# Altium schematic symbol library Schlib2.SchLib: 22 symbols
Pins are listed as number, name and electrical type; pins without a type are passive.

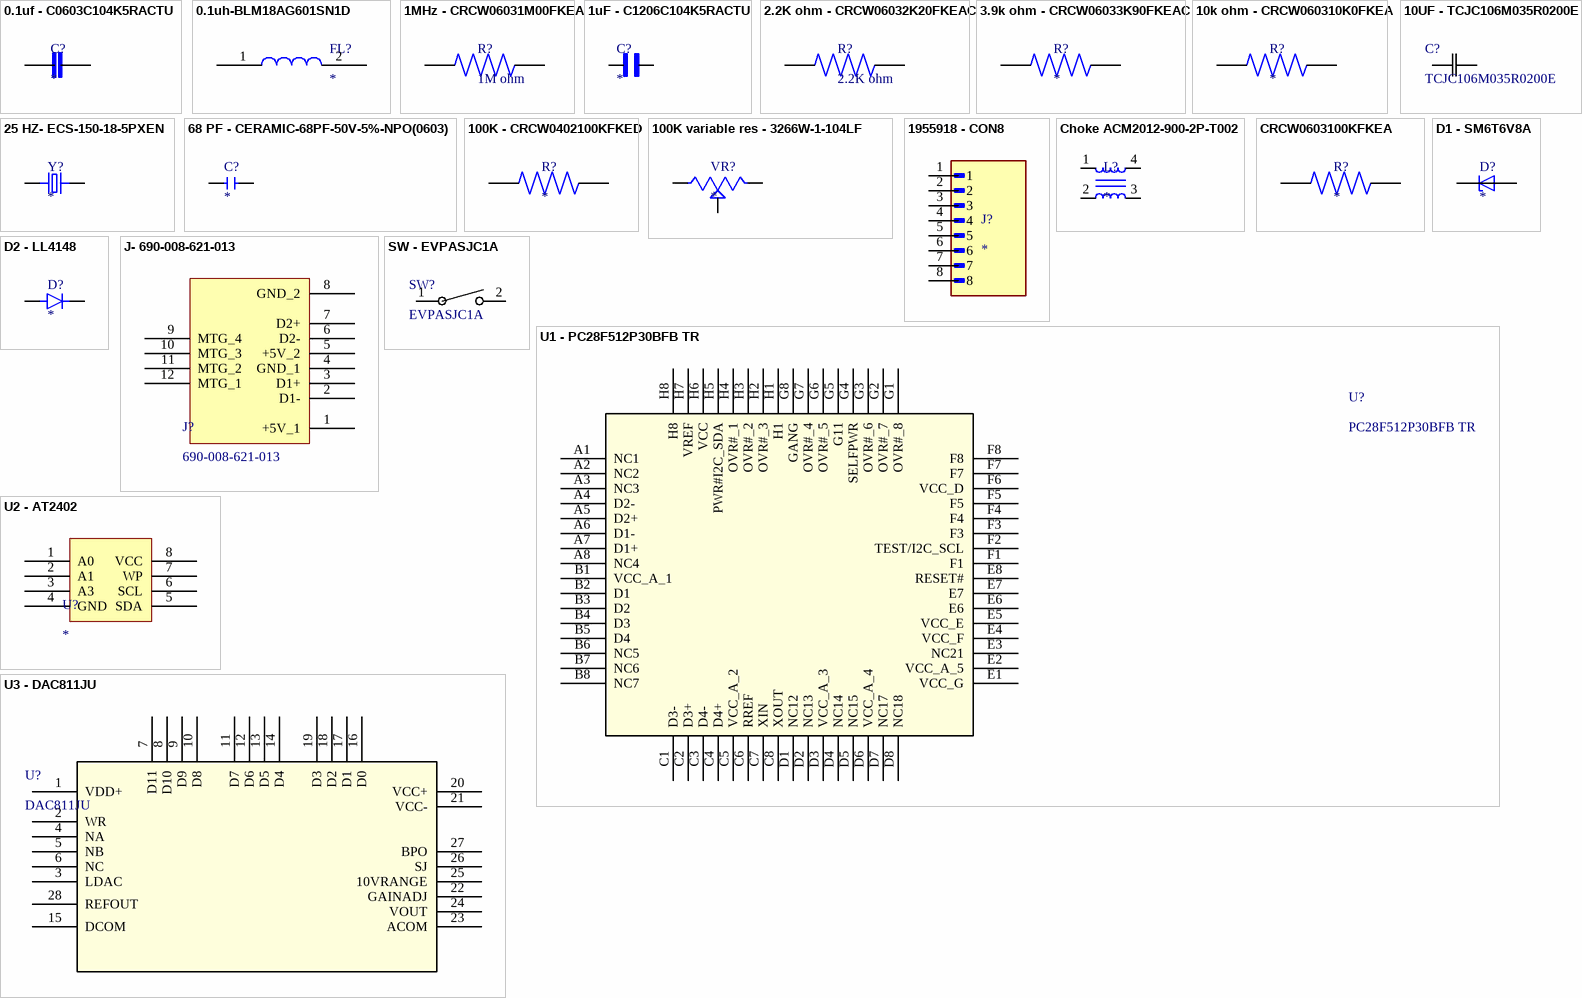
[diagram p0: symbols 0.1uf - C0603C104K5RACTU to U3 - DAC811JU]

## 0.1uf - C0603C104K5RACTU
designator C?
0.1 ÂµF Â±10% 50V Ceramic Capacitor X7R 0603 (1608 Metric); MF: KEMET; MP: C0603C104K5RACTU; SnapEDA_Link: https://www.snapeda.com/parts/C0603C104K5RACTU/KEMET/view-part/?ref=snap; Package: 603-2 KEMET; Value: *; Check_prices: https://www.snapeda.com/parts/C0603C104K5RACTU/KEMET/view-part/?ref=eda
footprint CAPC1608X90
pins: 1, 2

## 0.1uh-BLM18AG601SN1D
designator FL?
0.1uHz 1 - Ferrite Bead 0603 (1608 Metric) 500mA 380mOhm; MF: Murata; MP: BLM18AG601SN1D; Check_prices: https://www.snapeda.com/parts/BLM18AG601SN1D/Murata/view-part/?ref=eda; SnapEDA_Link: https://www.snapeda.com/parts/BLM18AG601SN1D/Murata/view-part/?ref=snap; Availability: In Stock; Value: *; Price: None; Package: 1608 Murata; Purchase-URL: https://pricing.snapeda.com/search/part/BLM18AG601SN1D/?ref=eda
footprint BEADC1608X95N
pins: 1, 2

## 1MHz - CRCW06031M00FKEA
designator R?, comment 1M ohm
Resistor, Thick Film, 1 Megohms, 0.1 W, 1%, SMT, 0603, TCR 37 ppm/DegC, Cut Tape | Vishay Dale CRCW06031M00FKEA; SnapEDA_Link: https://www.snapeda.com/parts/CRCW06031M00FKEA/Vishay+Dale/view-part/?ref=snap; Package: 1508 Vishay; Value: *; MF: Vishay; MP: CRCW06031M00FKEA; Check_prices: https://www.snapeda.com/parts/CRCW06031M00FKEA/Vishay+Dale/view-part/?ref=eda
footprint RESC1508X50N
pins: 1, 2

## 1uF - C1206C104K5RACTU
designator C?
Capacitor;Ceramic;Cap;.1 uF;Tol+10%;SMT;Vol-Rtg 50V;X7R;TR | KEMET C1206C104K5RACTU; SnapEDA_Link: https://www.snapeda.com/parts/C1206C104K5RACTU/KEMET/view-part/?ref=snap; Package: 1206-2 KEMET; Value: *; MF: KEMET; MP: C1206C104K5RACTU; Check_prices: https://www.snapeda.com/parts/C1206C104K5RACTU/KEMET/view-part/?ref=eda
footprint VARC3216X85N
pins: 1, 2

## 2.2K ohm - CRCW06032K20FKEAC
designator R?, comment 2.2K ohm
2.2 kOhms Â±1% 0.1W, 1/10W Chip Resistor 0603 (1608 Metric) - Thick Film; MF: Vishay Dale; MP: CRCW06032K20FKEAC; SnapEDA_Link: https://www.snapeda.com/parts/CRCW06032K20FKEAC/Vishay+Dale/view-part/?ref=snap; Package: 0603-2 Vishay; Value: *; Check_prices: https://www.snapeda.com/parts/CRCW06032K20FKEAC/Vishay+Dale/view-part/?ref=eda
footprint RESC1608X55N
pins: 1, 2

## 3.9k ohm - CRCW06033K90FKEAC
designator R?
MP: CRCW06033K90FKEAC; Package: None; Price: None; Value: *; Availability: Unavailable
footprint RESC1608X55N
pins: 1, 2

## 10k ohm - CRCW060310K0FKEA
designator R?
10 kOhms Â±1% 0.333W, 1/3W Chip Resistor 0603 (1608 Metric) Automotive AEC-Q200, Pulse Withstanding Thick Film; MF: Vishay; MP: CRCW060310K0FKEA; Purchase-URL: https://pricing.snapeda.com/search?q=CRCW060310K0FKEA&ref=eda; Package: 1508 Vishay; Check_prices: https://www.snapeda.com/parts/CRCW060310K0FKEA/Vishay+Dale/view-part/?ref=eda; Value: *; SnapEDA_Link: https://www.snapeda.com/parts/CRCW060310K0FKEA/Vishay+Dale/view-part/?ref=snap
footprint RESC1508X50N
pins: 1, 2

## 10UF - TCJC106M035R0200E
designator C?, comment TCJC106M035R0200E
Description; Manufacturer_Name: KYOCERA AVX; Type: Tantalum-Polymer Capacitors; Copyright: Copyright (C) 2025 Ultra Librarian. All rights reserved.; Manufacturer_Part_Number: TCJC106M035R0200E
footprint CAP_TCJ-C-2312_KAV
pins: 1, 2

## 25 HZ- ECS-150-18-5PXEN
designator Y?
CRYSTAL SMD; MP: ECS-150-18-5PXEN; Package: None; Price: None; Value: *; Availability: Unavailable
footprint XTAL_ECS-150-18-5PXEN
pins: 1, 2

## 68 PF - CERAMIC-68PF-50V-5%-NPO(0603)
designator C?
68 pF Â±5% 50V Ceramic Capacitor C0G, NP0 0603 (1608 Metric); MF: Yageo; MP: CC0603JRNPO9BN680; SnapEDA_Link: https://www.snapeda.com/parts/CC0603JRNPO9BN680/Yageo/view-part/?ref=snap; Package: 0603 Yageo; Value: *; Check_prices: https://www.snapeda.com/parts/CC0603JRNPO9BN680/Yageo/view-part/?ref=eda
footprint C0603
pins: 1, 2

## 100K - CRCW0402100KFKED
designator R?
Resistor, Thick Film, 100 Kilohms, 0.063 W, 1%, SMT, 0402, TCR 37 ppm/DegC, TR | Vishay Dale CRCW0402100KFKED; SnapEDA_Link: https://www.snapeda.com/parts/CRCW0402100KFKED/Vishay+Dale/view-part/?ref=snap; Package: 1005 Panasonic Electronic Components; Value: *; MF: Vishay; MP: CRCW0402100KFKED; Check_prices: https://www.snapeda.com/parts/CRCW0402100KFKED/Vishay+Dale/view-part/?ref=eda
footprint RESC1005X40N
pins: 1, 2

## 100K variable res - 3266W-1-104LF
designator VR?
100 kOhms 0.25W, 1/4W PC Pins Through Hole Trimmer Potentiometer Cermet 12 Turn Top Adjustment; MP: 3266W-1-104LF; MF: Bourns; Price: None; Package: TO-218 Bourns; Check_prices: https://www.snapeda.com/parts/3266W-1-104LF/Bourns/view-part/378417/?ref=eda; Value: *; Availability: In Stock; SnapEDA_Link: https://www.snapeda.com/parts/3266W-1-104LF/Bourns/view-part/378417/?ref=snap
footprint TRIM_3266W-1-104LF
pins: 1 CCW, 2 WIPER, 3 CW

## 1955918 - CON8
designator J?
MP: 1955918; Package: None; Price: None; Value: *; Availability: Unavailable
footprint PHOENIX_1955918
pins: 1, 2, 3, 4, 5, 6, 7, 8

## Choke ACM2012-900-2P-T002
designator L?
2 Line Common Mode Choke Surface Mount 90 Ohms @ 100MHz 400mA DCR 190mOhm; MP: ACM2012-900-2P-T002; MF: TDK; SnapEDA_Link: https://www.snapeda.com/parts/ACM2012-900-2P-T002/TDK/view-part/12425/?ref=snap; Availability: Unavailable; Price: None; Value: *; Package: Horizontal-4 TDK
footprint FIL_ACM2012-900-2P-T002
pins: 1, 2, 3, 4

## CRCW0603100KFKEA
designator R?
Resistor, Thick Film, 100 Kilohms, 0.1W, 1%, SMT, TCR 37 ppm/DegC, Tape and Reel | Vishay Dale CRCW0603100KFKEA; SnapEDA_Link: https://www.snapeda.com/parts/CRCW0603100KFKEA/Vishay+Dale/view-part/?ref=snap; Package: 1508 Vishay; Value: *; MF: Vishay; MP: CRCW0603100KFKEA; Check_prices: https://www.snapeda.com/parts/CRCW0603100KFKEA/Vishay+Dale/view-part/?ref=eda
footprint RESC1508X50N
pins: 1, 2

## D1 - SM6T6V8A
designator D?
13.4V Clamp 298A (8/20Âµs) Ipp Tvs Diode Surface Mount SMB (DO-214AA); MF: STMicroelectronics; MP: SM6T6V8A; SnapEDA_Link: https://www.snapeda.com/parts/SM6T6V8A/STMicroelectronics/view-part/?ref=snap; Package: DO-214 STMicroelectronics; Value: *; Check_prices: https://www.snapeda.com/parts/SM6T6V8A/STMicroelectronics/view-part/?ref=eda
footprint DIOM5336X265N
pins: 1 K, 2 A

## D2 - LL4148
designator D?
Small Signal Diode, SOD-80, 100V, 0.15A, 175Â°C; MF: Diotec Semiconductor; MP: LL4148; SnapEDA_Link: https://www.snapeda.com/parts/LL4148/Diotec/view-part/?ref=snap; Package: SOD-80 Diotec; Value: *; Check_prices: https://www.snapeda.com/parts/LL4148/Diotec/view-part/?ref=eda
footprint DIO_LL4148
pins: A, C

## J- 690-008-621-013
designator J?, comment 690-008-621-013
Description; Manufacturer_Name: EDAC; Type: USB, DVI, HDMI, Connectors; Copyright: Copyright (C) 2025 Ultra Librarian. All rights reserved.; Manufacturer_Part_Number: 690-008-621-013; RefDes: RefDes
footprint CONN8_690-008_EDA
pins: 1 +5V_1, 2 D1-, 3 D1+, 4 GND_1, 5 +5V_2, 6 D2-, 7 D2+, 8 GND_2, 9 MTG_4, 10 MTG_3, 11 MTG_2, 12 MTG_1

## SW - EVPASJC1A
designator SW?, comment EVPASJC1A
Description; Manufacturer_Name: Panasonic; Copyright: Copyright (C) 2026 Ultra Librarian. All rights reserved.; Manufacturer_Part_Number: EVPASJC1A
footprint SW_EVPASJC1A_PAN
pins: 1, 2

## U1 - PC28F512P30BFB TR
designator U?, comment PC28F512P30BFB TR
No Description Available; Manufacturer_Name: Micron; Copyright: Copyright (C) 2026 Ultra Librarian. All rights reserved.; Manufacturer_Part_Number: PC28F512P30BFB TR; RefDes: RefDes; Type: Type
footprint BGA64_8X10_MRN
pins: A1 NC1, A2 NC2, A3 NC3, A4 D2- (power), A5 D2+, A6 D1- (power), A7 D1+, A8 NC4, B1 VCC_A_1, B2 D1 (power), B3 D2, B4 D3, B5 D4, B6 NC5, B7 NC6, B8 NC7, C1 D3-, C2 D3+, C3 D4-, C4 D4+, C5 VCC_A_2, C6 RREF, C7 XIN, C8 XOUT, D1 NC12, D2 NC13, D3 VCC_A_3, D4 NC14, D5 NC15 (power), D6 VCC_A_4 (power), D7 NC17, D8 NC18, E1 VCC_G, E2 VCC_A_5, E3 NC21, E4 VCC_F, E5 VCC_E, E6, E7, E8 RESET#, F1, F2 TEST/I2C_SCL, F3, F4, F5, F6 VCC_D, F7, F8, G1 OVR#_8, G2 OVR#_7, G3 OVR#_6, G4 SELFPWR (power), G5 G11, G6 OVR#_5, G7 OVR#_4, G8 GANG, H1, H2 OVR#_3 (power), H3 OVR#_2 (power), H4 OVR#_1 (power), H5 PWR#I2C_SDA, H6 VCC (power), H7 VREF, H8

## U2 - AT2402
designator U?
footprint AT24C02
pins: 1 A0, 2 A1, 3 A3, 4 GND, 5 SDA, 6 SCL, 7 WP, 8 VCC

## U3 - DAC811JU
designator U?, comment DAC811JU
12-bit Digital-to-Analog Converter w/Parallel Interface 28-SOIC 0 to 70; Manufacturer_Name: Texas Instruments; Copyright: Copyright (C) 2026 Ultra Librarian. All rights reserved.; Manufacturer_Part_Number: DAC811JU; Datasheet: https://www.ti.com/lit/gpn/dac811; RefDes: RefDes; Type: Type
footprint DW28
pins: 1 VDD+ (power), 2 WR, 3 LDAC, 4 NA, 5 NB, 6 NC, 7 D11, 8 D10, 9 D9, 10 D8, 11 D7, 12 D6, 13 D5, 14 D4, 15 DCOM (power), 16 D0, 17 D1, 18 D2, 19 D3, 20 VCC+ (power), 21 VCC- (power), 22 GAINADJ, 23 ACOM (power), 24 VOUT, 25 10VRANGE (power), 26 SJ, 27 BPO, 28 REFOUT